# EAGLE library part TPA3123D2 (library lm5007)
25-W STEREO CLASS-D AUDIO POWER AMPLIFIER Please INVOKE gate EXP, set DRC-Clearance | Same signals | SMD - SMD = 0 Source: http://focus.ti.com/lit/ds/symlink/tpa3123d2.pdf
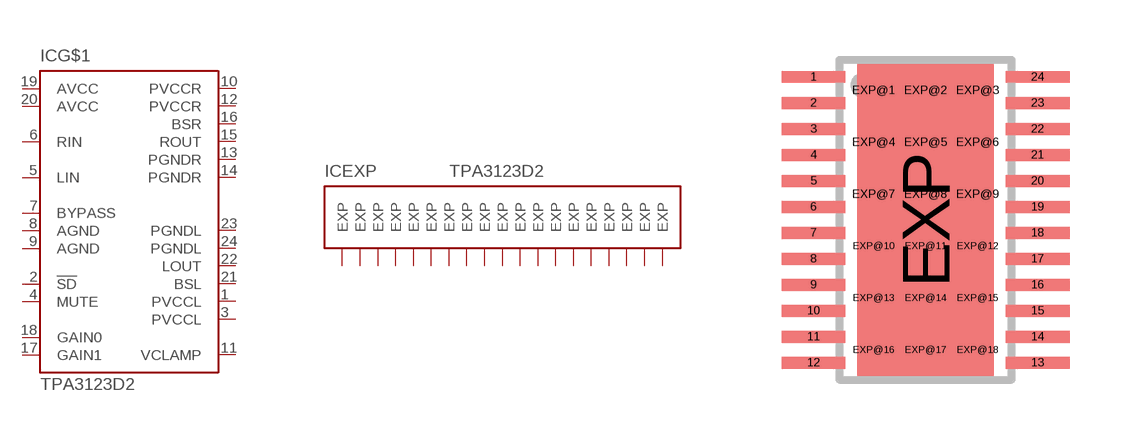
[diagram p67: symbol with the pads of PWP-TSSOP24; footprint PWP-TSSOP24]

Designator prefix IC; gates G$1=TPA3123D2 EXP=EXP19

## TPA3123D2 (MPN: TPA3123D2PWP; OC_FARNELL: 1632099; OC_NEWARK: 53M3994)  [PWP-TSSOP24]
1  G$1:PVCCL  in
2  G$1:!SD  in
3  G$1:PVCCL  in
4  G$1:MUTE  in
5  G$1:LIN  in
6  G$1:RIN  in
7  G$1:BYPASS  in
8  G$1:AGND  in
9  G$1:AGND  in
10  G$1:PVCCR  in
11  G$1:VCLAMP  in
12  G$1:PVCCR  in
13  G$1:PGNDR  in
14  G$1:PGNDR  in
15  G$1:ROUT  out
16  G$1:BSR  pas
17  G$1:GAIN1  in
18  G$1:GAIN0  in
19  G$1:AVCC  in
20  G$1:AVCC  in
21  G$1:BSL  pas
22  G$1:LOUT  out
23  G$1:PGNDL  in
24  G$1:PGNDL  in
EXP  EXP:EXP  pas
EXP@1  EXP:EXP  pas
EXP@2  EXP:EXP  pas
EXP@3  EXP:EXP  pas
EXP@4  EXP:EXP  pas
EXP@5  EXP:EXP  pas
EXP@6  EXP:EXP  pas
EXP@7  EXP:EXP  pas
EXP@8  EXP:EXP  pas
EXP@9  EXP:EXP  pas
EXP@10  EXP:EXP  pas
EXP@11  EXP:EXP  pas
EXP@12  EXP:EXP  pas
EXP@13  EXP:EXP  pas
EXP@14  EXP:EXP  pas
EXP@15  EXP:EXP  pas
EXP@16  EXP:EXP  pas
EXP@17  EXP:EXP  pas
EXP@18  EXP:EXP  pas

## Footprint PWP-TSSOP24 (pad centres in mm)
PWP (R-PDSO-G24) PowerPAD TM Source: http://focus.ti.com/lit/ds/symlink/tpa3123d2.pdf
smd 1.6 x 0.3: 1 -2.8,3.575; 2 -2.8,2.925; 3 -2.8,2.275; 4 -2.8,1.625; 5 -2.8,0.975; 6 -2.8,0.325; 7 -2.8,-0.325; 8 -2.8,-0.975; 9 -2.8,-1.625; 10 -2.8,-2.275; 11 -2.8,-2.925; 12 -2.8,-3.575; 13 2.8,-3.575; 14 2.8,-2.925; 15 2.8,-2.275; 16 2.8,-1.625; 17 2.8,-0.975; 18 2.8,-0.325; 19 2.8,0.325; 20 2.8,0.975; 21 2.8,1.625; 22 2.8,2.275; 23 2.8,2.925; 24 2.8,3.575
smd 3.4 x 7.8: EXP 0,0
drill 0.3 pad 0.7: EXP@1 -1.3,3.25; EXP@2 0,3.25; EXP@3 1.3,3.25; EXP@4 -1.3,1.95; EXP@5 0,1.95; EXP@6 1.3,1.95; EXP@7 -1.3,0.65; EXP@8 0,0.65; EXP@9 1.3,0.65; EXP@10 -1.3,-0.65; EXP@11 0,-0.65; EXP@12 1.3,-0.65; EXP@13 -1.3,-1.95; EXP@14 0,-1.95; EXP@15 1.3,-1.95; EXP@16 -1.3,-3.25; EXP@17 0,-3.25; EXP@18 1.3,-3.25